# Altium schematic symbol library Relays.SchLib: 3 symbols
Pins are listed as number, name and electrical type; pins without a type are passive.

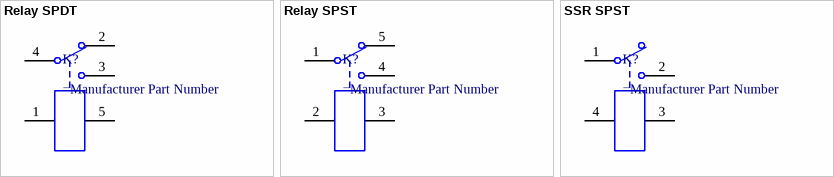
[diagram p0: symbols Relay SPDT to SSR SPST]

## Relay SPDT
designator K?
Relay or Contactor
footprint ALQ105 (ALQ (LQ) series: 1 Form C, 10A Small Power Relays)
pins: 1 COIL, 2 NC, 3 NO, 4 COM, 5 COIL

## Relay SPST
designator K?
Relay or Contactor
footprint TE T9GS1L14-5
footprint ALQ105 (ALQ (LQ) series: 1 Form C, 10A Small Power Relays)
pins: 1 COM, 2 COIL, 3 COIL, 4 NO, 5 NC

## SSR SPST
designator K?
Solid State Relay
footprint SENSATA CX480D5
pins: 1 COM, 2 NO, 3 COIL, 4 COIL